# Altium schematic symbol library AuxPDU.SchLib: 23 symbols
Pins are listed as number, name and electrical type; pins without a type are passive.

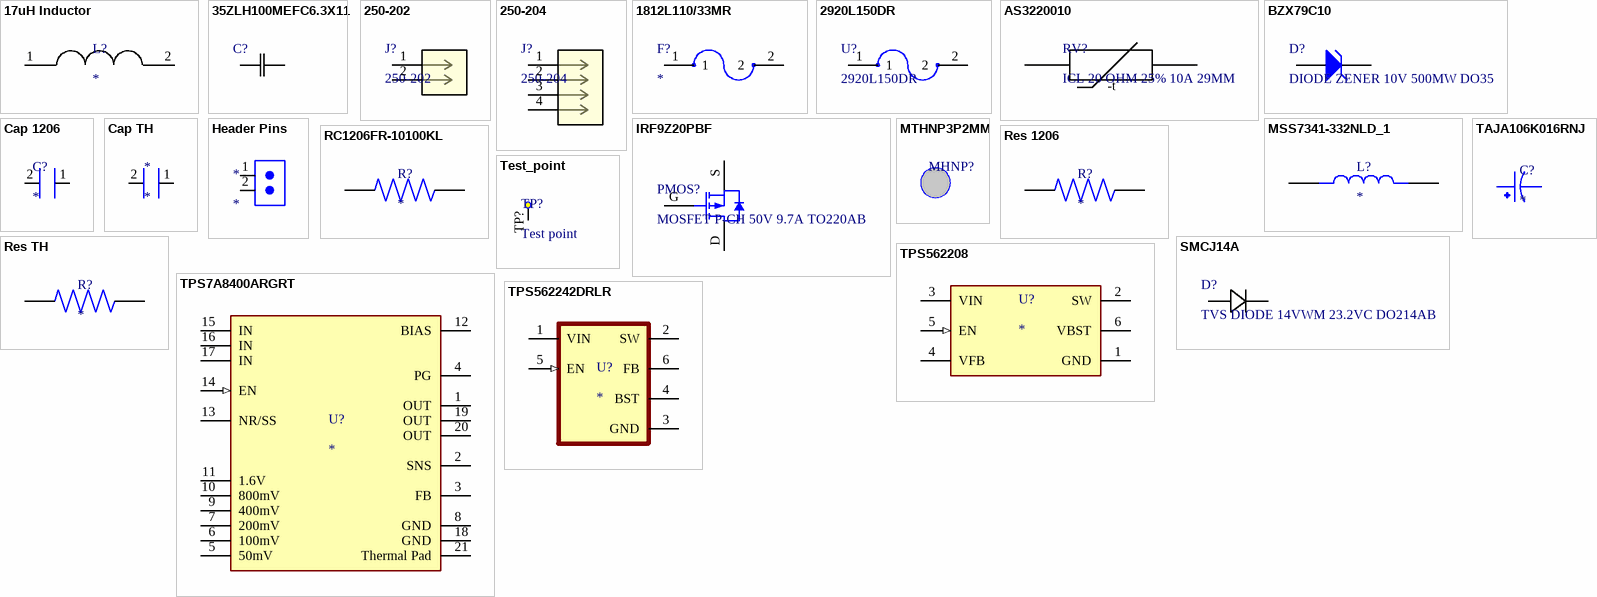
[diagram p0: symbols 17uH Inductor to TPS562242DRLR]

## 17uH Inductor
designator L?
footprint 17uH Inductor
pins: 1 VIN, 2 VIN

## 35ZLH100MEFC6.3X11
designator C?
100 uF electrolytic capacitor; Manufacturer_Name: Rubycon; Manufacturer_Part_Number: 35ZLH100MEFC6.3X11; Copyright: Copyright (C) 2025 Ultra Librarian. All rights reserved.
footprint CAP_YX_6P3X11_RUB
pins: 1, 2

## 250-202
designator J?
Description; Manufacturer_Name: Wago; Copyright: Copyright (C) 2025 Ultra Librarian. All rights reserved.; Manufacturer_Part_Number: 250-202; RefDes: RefDes; Type: Type
footprint CONN2_250-202_WAG
pins: 1, 2

## 250-204
designator J?
Description; Manufacturer_Name: Wago; Copyright: Copyright (C) 2025 Ultra Librarian. All rights reserved.; Manufacturer_Part_Number: 250-204; RefDes: RefDes; Type: Type
footprint CONN4_250-204_WAG
pins: 1, 2, 3, 4

## 1812L110/33MR
designator F?
MF: {'manufacturer': u'Littelfuse Inc.'}; MP: 1812L110/33MR; Package: None; Price: None; Value: *; Availability: Unavailable
footprint 1812L110_33MR (PTC Reset Fuse)
pins: 1, 2

## 2920L150DR
designator U?
Description; Manufacturer_Name: Littelfuse Inc; Copyright: Copyright (C) 2025 Ultra Librarian. All rights reserved.; Manufacturer_Part_Number: 2920L150DR; RefDes: RefDes; Type: Type
footprint CHIP_2920L_7P98X5P44_LTF-M
pins: 1, 2

## AS3220010
designator RV?, comment ICL 20 OHM 25% 10A 29MM
Supplier 1: DigiKey; Supplier Part Number 1: 570-AS3220010-ND
footprint AS3220010 (Inrush Current Limiter 20 Ohms ±25% 10 A 1.142" (29.00mm))
pins: 1 2, 2
text: -t

## BZX79C10
designator D?, comment DIODE ZENER 10V 500MW DO35
ComponentLink1Description: New link; ComponentLink1URL: *; Supplier 1: DigiKey; Supplier Part Number 1: BZX79C10-ND
footprint BZX79C10 (2 Hole, Lead Diameter 0.46-0.533 mm)
pins: 1 A, 2 K

## Cap 1206
designator C?
Generic SMD capacitor with 1206 package (3216 metric)
footprint Cap 1206 (Generic SMD capacitor with 1206 package (3216 metric))
pins: 1, 2

## Cap TH
designator *
pins: 1, 2

## Header Pins
designator *
footprint Header Pins
pins: 1, 2

## IRF9Z20PBF
designator PMOS?, comment MOSFET P-CH 50V 9.7A TO220AB
ComponentLink1Description: New link; ComponentLink1URL: *; Supplier 1: Newark; Supplier Part Number 1: IRF9Z20PBF; Supplier 2: DigiKey; Supplier Part Number 2: IRF9Z20PBF-ND
footprint IRF9Z20PBF (TO-220AB_HIGHVOLTAGE_VIS)
pins: D DRAIN, G GATE, S SOURCE

## MSS7341-332NLD_1
designator L?
3.3 ÂµH Shielded Drum Core Inductor 3.95 A 18mOhm Max Nonstandard; MF: Coilcraft; MP: MSS7341-332NLD; SnapEDA_Link: https://www.snapeda.com/parts/MSS7341-332NLD/Coilcraft/view-part/?ref=snap; Package: None; Value: *; Check_prices: https://www.snapeda.com/parts/MSS7341-332NLD/Coilcraft/view-part/?ref=eda
footprint IND_MSS7341-332NLD
pins: 1, 2

## MTHNP3P2MM
designator MHNP?, comment Mounting Hole Non-Plated 3.2 mm  (value not drawn)
footprint MTHNP3P2MM (Mounting Hole Non Plated 3.2 mm hole)

## RC1206FR-10100KL
designator R?
MF: {'manufacturer': u'YAGEO'}; MP: RC1206FR-10100KL; Package: None; Price: None; Value: *; Availability: Unavailable
footprint RESC3116X65N
pins: 1, 2

## Res 1206
designator R?
Generic SMD resistor with 1206 package (3216 metric)
footprint Cap 1206 (Generic SMD capacitor with 1206 package (3216 metric))
pins: 1, 2

## Res TH
designator R?
Generic Res Throughhole; MF: {'manufacturer': u'YAGEO'}; MP: RC1206FR-10100KL; Package: None; Price: None; Value: *; Availability: Unavailable
footprint Res TH (generic resistor throughhole)
pins: 1, 2

## SMCJ14A
designator D?, comment TVS DIODE 14VWM 23.2VC DO214AB
Unidirectional
footprint SMCJSeries_LTF-M
pins: 1, 2

## TAJA106K016RNJ
designator C?
10 ÂµF Molded Tantalum Capacitors 16 V 1206 (3216 Metric) 3Ohm; MF: KYOCERA AVX; MP: TAJA106K016RNJ; SnapEDA_Link: https://www.snapeda.com/parts/TAJA106K016RNJ/Kyocera/view-part/?ref=snap; Package: 1206 AVX; Value: *; Check_prices: https://www.snapeda.com/parts/TAJA106K016RNJ/Kyocera/view-part/?ref=eda
footprint CAPMP3216X180N
pins: 1, 2

## Test_point
designator TP?, comment Test point
Value: Test point
footprint Test_point (Reference point)
pins: TP? Test point

## TPS7A8400ARGRT
designator U?
Linear Voltage Regulator IC Positive Adjustable/Programmable 1 Output 3A
footprint TPS7A8400ARGRT (Linear Voltage Regulator IC Positive Adjustable/Programmable 1 Output 3A)
pins: 1 OUT, 2 SNS, 3 FB, 4 PG (oc), 5 50mV, 6 100mV, 7 200mV, 8 GND (power), 9 400mV, 10 800mV, 11 1.6V, 12 BIAS, 13 NR/SS, 14 EN (in), 15 IN (power), 16 IN (power), 17 IN (power), 18 GND (power), 19 OUT, 20 OUT, 21 Thermal Pad (power)

## TPS562208
designator U?
Buck Switching Regulator IC Positive Adjustable 0.768V 1 Output 2A SOT-23-6 Thin, TSOT-23-6
footprint TPS562208 (Buck Switching Regulator IC Positive Adjustable 0.768V 1 Output 2A SOT-23-6 Thin, TSOT-23-6)
footprint TPS562208 (Buck Switching Regulator IC Positive Adjustable 0.768V 1 Output 2A SOT-23-6 Thin, TSOT-23-6)
pins: 1 GND (power), 2 SW, 3 VIN (power), 4 VFB, 5 EN (in), 6 VBST

## TPS562242DRLR
designator U?
3-V to 17-V input voltage, 2-A, 1.4-MHz synchronous buck converter in SOT563; MF: Texas Instruments; MP: TPS562242DRLR; SnapEDA_Link: https://www.snapeda.com/parts/TPS562242DRLR/Texas+Instruments/view-part/?ref=snap; Package: SOT-5X3-6 Texas Instruments; Value: *; Check_prices: https://www.snapeda.com/parts/TPS562242DRLR/Texas+Instruments/view-part/?ref=eda
footprint SOT50P160X60-6N
pins: 1 VIN (power), 2 SW (power), 3 GND (power), 4 BST, 5 EN (in), 6 FB